# EAGLE library part FPF1321UCX (library MOTO_LIB)
SPDT Power switch. Reverse blocking.
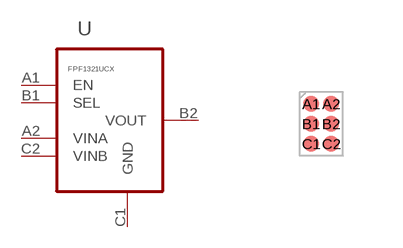
[diagram p3: symbol with the pads of WCSP1_46X0_96B0_315_PS0_5_P6; footprint WCSP1_46X0_96B0_315_PS0_5_P6]

Designator prefix U

## FPF1321UCX (MPN: FPF1321UCX; SUPPLIER: FAIRCHILD)  [WCSP1_46X0_96B0_315_PS0_5_P6]
A1  EN  in
A2  VINA  pwr
B1  SEL  in
B2  VOUT  in
C1  GND  in
C2  VINB  pwr

## Footprint WCSP1_46X0_96B0_315_PS0_5_P6 (pad centres in mm)
smd 0.4 x 0.4: A1 -0.25,0.5; A2 0.25,0.5; B1 -0.25,0; B2 0.25,0; C1 -0.25,-0.5; C2 0.25,-0.5